# Altium schematic symbol library Toshiba PMOS - SOT23-F.SCHLIB: 1 symbol
Pins are listed as number, name and electrical type; pins without a type are passive.

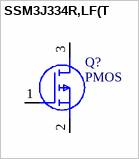
[diagram p0: symbol SSM3J334R,LF(T]

## SSM3J334R,LF(T
designator Q?, comment PMOS
MOSFET (P-Channel); Manufacturer_Name: Toshiba; Manufacturer_Part_Number: SSM3J334R,LF(T; Datasheet Link: http://toshiba.semicon-storage.com/info/docget.jsp?did=5579&prodName=SSM3J334R; Height: 0.88mm; RS Part Number: 1445260P; RS Price/Stock: http://uk.rs-online.com/web/p/products/1445260P
footprint SOTFL95P240X88-3N
pins: 1, 2, 3